# Altium schematic symbol library SW-T3-2B-A-A3-S1.SchLib: 1 symbol
Pins are listed as number, name and electrical type; pins without a type are passive.

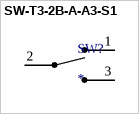
[diagram p0: symbol SW-T3-2B-A-A3-S1]

## SW-T3-2B-A-A3-S1
designator SW?
SW-T3-2B-A-A3-S1
footprint SW-T3-2B-A-A3-S1
pins: 1, 2 COM, 3